# Altium schematic symbol library SnapEDAsch.SchLib: 1 symbol
Pins are listed as number, name and electrical type; pins without a type are passive.

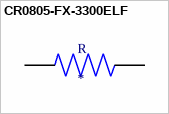
[diagram p0: symbol CR0805-FX-3300ELF]

## CR0805-FX-3300ELF
designator R
330 Ohms Â±1% 0.125W, 1/8W Chip Resistor 0805 _2012 Metric_ Moisture Resistant Thick Film; MF: Bourns; MP: CR0805-FX-3300ELF; Price: None; Package: 2012 Bourns; Availability: Unavailable; Value: *; SnapEDA_Link: https://www.snapeda.com/parts/CR0805-FX-3300ELF/Bourns/view-part/942422/?ref=snap
footprint RESC2012X60N
pins: 1, 2